# Altium footprint library KEYSTONE_7794.PcbLib: 1 footprints
Each footprint in its own frame and in the unit in brackets; x right, y up, seen from the top. Pads: shape width x height; smd on the part's side, far side on the other; paste and mask are expansions set on the pad; w line width, h text height; cw(c..) or ccw(c..) is an arc to the next point about the centre after c.
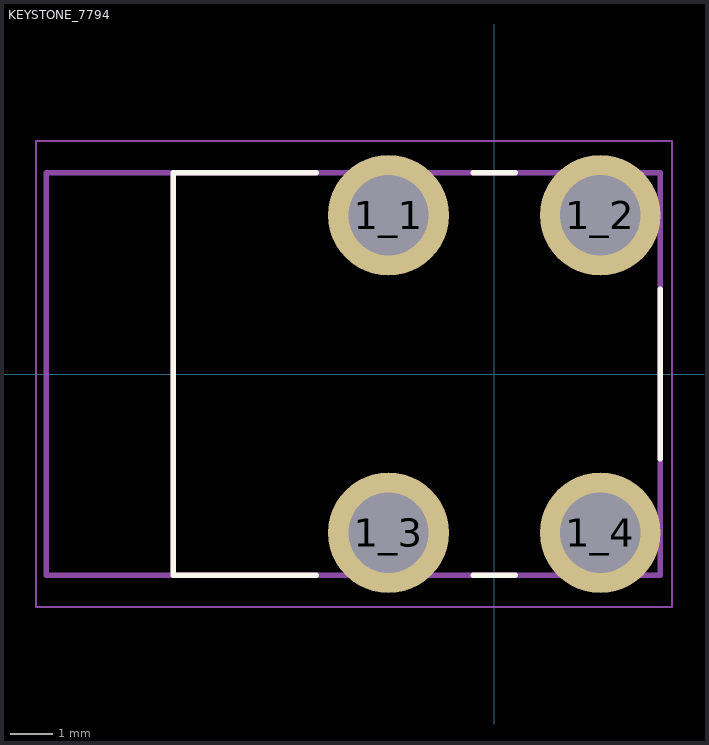
[diagram p0: the footprint, top view; thin cyan lines are the x and y axes]

## KEYSTONE_7794 [mm]
height 7.9
pads (4):
  round 2.85 hole 1.9: 1_1(-2.5,3.75) 1_2(2.5,3.75) 1_3(-2.5,-3.75) 1_4(2.5,-3.75)
Top Overlay:
  lines w0.127: -4.21,-4.75 -7.58,-4.75 -7.58,4.75 -4.21,4.75 ; -0.5,-4.75 0.5,-4.75 ; -0.5,4.75 0.5,4.75 ; 3.92,-2 3.92,2
Assembly Top:
  lines w0.127: -7.58,-4.75 -10.58,-4.75 -10.58,4.75 -7.58,4.75 ; -7.58,-4.75 3.92,-4.75 3.92,4.75 -7.58,4.75 ; -7.58,-4.75 -7.58,4.75
Courtyard Top:
  lines w0.05: -10.83,-5.5 4.2,-5.5 4.2,5.5 -10.83,5.5 -10.83,-5.5
3D body "step_temp.STEP": height 2.61, standoff -10.74, extent -9.398,-4.817 3.88,4.817